# Altium schematic symbol library BQ2057T.SchLib: 1 symbol
Pins are listed as number, name and electrical type; pins without a type are passive.

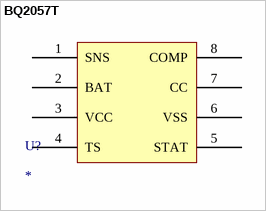
[diagram p0: symbol BQ2057T]

## BQ2057T
designator U?
BQ2057T
footprint SOIC127P600X178-8N (SOIC, 8-Leads, Body 5.1x4.1mm (max), Pitch 1.27mm, IPC Medium Density)
pins: 1 SNS, 2 BAT, 3 VCC, 4 TS, 5 STAT, 6 VSS, 7 CC, 8 COMP